# Altium footprint library aPassive.PcbLib: 212 footprints (part 10 of 14)
Each footprint in its own frame and in the unit in brackets; x right, y up, seen from the top. Pads: shape width x height; smd on the part's side, far side on the other; paste and mask are expansions set on the pad; w line width, h text height; cw(c..) or ccw(c..) is an arc to the next point about the centre after c.
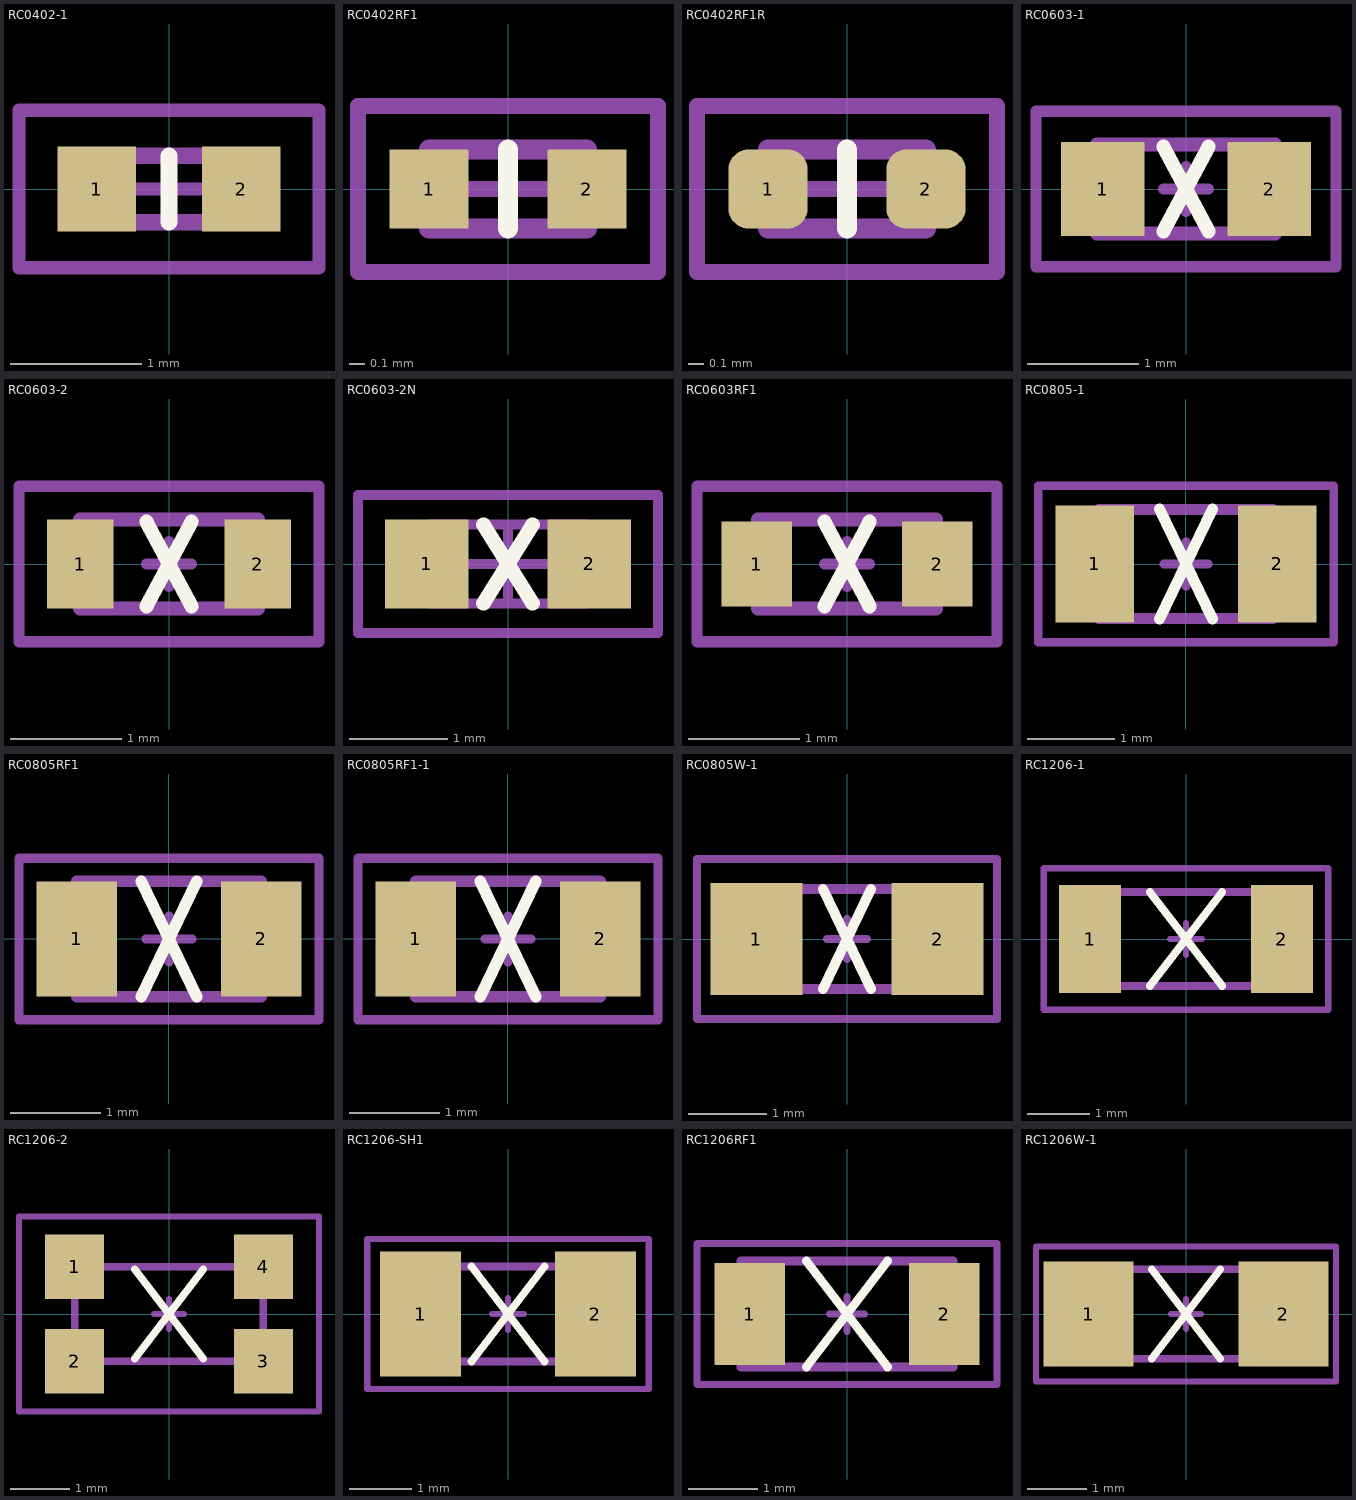
[diagram p9: the footprints below, top view; thin cyan lines are the x and y axes]

## RC0402-1 [mm] "Chip resistor 0402"
height 0.4
pads (2):
  rect 0.6x0.65 smd: 1(-0.55,0) 2(0.55,0)
Top Overlay:
  lines w0.127: 0,-0.254 0,0.254
Mechanical 13:
  lines w0.127: -0.508,-0.254 -0.508,0.254 0.508,0.254 0.508,-0.254 -0.508,-0.254
Mechanical 15:
  lines w0.1: -0.25,0 0.25,0 ; 0,-0.25 0,0.25
  lines w0.102: -1.143,-0.6 1.143,-0.6 1.143,0.6 -1.143,0.6 -1.143,-0.6
3D body: height 0.36, standoff 0.35, extent -0.35,-0.254 0.35,0.254
3D body: height 0.35, standoff 0, extent -0.508,-0.254 0.508,0.254

## RC0402RF1 [mil] "Chip resistor 0402 RF pad"
height 15.75
pads (2):
  rect 20x20 smd: 1(-20,0) 2(20,0)
Top Overlay:
  lines w5: 0,-10 0,10
Mechanical 13:
  lines w5: -20,-10 20,-10 20,10 -20,10 -20,-10
Mechanical 15:
  lines w3.94: -9.84,0 9.84,0 ; 0,-9.84 0,9.84
  lines w4: -38,-21 -38,21 38,21 38,-21 -38,-21
3D body: height 13.78, standoff 0, extent -20,-10 20,10
3D body: height 13.98, standoff 13.78, extent -13.78,-10 13.78,10

## RC0402RF1R [mil] "Chip resistor 0402 RF round pad"
height 15.75
pads (2):
  rrect50% 20x20 smd: 1(-20,0) 2(20,0)
Top Overlay:
  lines w5: 0,-10 0,10
Mechanical 13:
  lines w5: -20,-10 20,-10 20,10 -20,10 -20,-10
Mechanical 15:
  lines w3.94: -9.84,0 9.84,0 ; 0,-9.84 0,9.84
  lines w4: -38,-21 -38,21 38,21 38,-21 -38,-21
3D body: height 13.78, standoff 0, extent -20,-10 20,10
3D body: height 13.98, standoff 13.78, extent -13.78,-10 13.78,10

## RC0603-1 [mm] "Chip resistor 0603"
height 0.45
pads (2):
  rect 0.75x0.85 smd: 1(-0.75,0) 2(0.75,0)
Top Overlay:
  lines w0.127: -0.203,-0.381 0.203,0.381 ; -0.203,0.381 0.203,-0.381
Mechanical 13:
  lines w0.127: -0.8,-0.4 -0.8,0.4 0.8,0.4 0.8,-0.4 -0.8,-0.4
Mechanical 15:
  lines w0.1: -0.2,0 0.2,0 ; 0,-0.2 0,0.2 ; -1.35,-0.7 -1.35,0.7 1.35,0.7 1.35,-0.7 -1.35,-0.7
3D body: height 0.45, standoff 0, extent -0.8,-0.4 0.8,0.4
3D body: height 0.46, standoff 0.45, extent -0.6,-0.4 0.6,0.4

## RC0603-2 [mm] "Chip resistor 0603 low C"
height 0.45
pads (2):
  rect 0.6x0.8 smd: 1(-0.8,0) 2(0.8,0)
Top Overlay:
  lines w0.127: -0.203,-0.381 0.203,0.381 ; -0.203,0.381 0.203,-0.381
Mechanical 13:
  lines w0.127: -0.8,-0.4 0.8,-0.4 0.8,0.4 -0.8,0.4 -0.8,-0.4
Mechanical 15:
  lines w0.1: -0.2,0 0.2,0 ; 0,-0.2 0,0.2 ; -1.35,-0.7 1.35,-0.7 1.35,0.7 -1.35,0.7 -1.35,-0.7
3D body: height 0.46, standoff 0.45, extent -0.6,-0.4 0.6,0.4
3D body: height 0.45, standoff 0, extent -0.8,-0.4 0.8,0.4

## RC0603-2N [mm] "Chip Resistor, 2-Leads, Body 1,6x0,8mm, IPC Medium Density"
height 0.5
pads (2):
  rect 0.85x0.9 smd: 1(-0.825,0) 2(0.825,0)
Top Overlay:
  lines w0.15: -0.25,-0.4 0.25,0.4 ; -0.25,0.4 0.25,-0.4
Mechanical 13:
  lines w0.1: -0.8,-0.4 -0.8,0.4 0.8,0.4 0.8,-0.4 -0.8,-0.4
Mechanical 15:
  lines w0.1: -0.4,0 0.4,0 ; 0,-0.4 0,0.4 ; -1.525,-0.7 -1.525,0.7 1.525,0.7 1.525,-0.7 -1.525,-0.7
3D body: height 0.5, standoff 0, extent -0.8,-0.4 0.8,0.4

## RC0603RF1 [mil] "Chip resistor 0603 RF pad"
height 17.72
pads (2):
  rect 25x30 smd: 1(-32,0) 2(32,0)
Top Overlay:
  lines w5: -8,-15 8,15 ; -8,15 8,-15
Mechanical 13:
  lines w5: -31.5,-15.75 31.5,-15.75 31.5,15.75 -31.5,15.75 -31.5,-15.75
Mechanical 15:
  lines w3.94: -7.87,0 7.87,0 ; 0,-7.87 0,7.87 ; -53.15,-27.56 53.15,-27.56 53.15,27.56 -53.15,27.56 -53.15,-27.56
3D body: height 17.91, standoff 17.72, extent -23.62,-15.75 23.62,15.75
3D body: height 17.72, standoff 0, extent -31.5,-15.75 31.5,15.75

## RC0805-1 [mm] "Chip resistor 0805"
height 0.5
pads (2):
  rect 0.9x1.35 smd: 1(-1.05,0) 2(1.05,0)
Top Overlay:
  lines w0.127: -0.305,-0.635 0.305,0.635 ; -0.305,0.635 0.305,-0.635
Mechanical 13:
  lines w0.127: -1,-0.625 1,-0.625 1,0.625 -1,0.625 -1,-0.625
Mechanical 15:
  lines w0.1: -0.254,0 0.254,0 ; 0,-0.254 0,0.254 ; -1.7,-0.9 1.7,-0.9 1.7,0.9 -1.7,0.9 -1.7,-0.9
3D body: height 0.51, standoff 0.5, extent -0.6,-0.625 0.6,0.625
3D body: height 0.5, standoff 0, extent -1.016,-0.625 1.016,0.625

## RC0805RF1 [mil] "Chip resistor 0805; smaller pads for RF"
height 19.68
pads (2):
  rect 35x50 smd: 1(-40,0) 2(40,0)
Top Overlay:
  lines w5: -12,-25 12,25 ; -12,25 12,-25
Mechanical 13:
  lines w5: -40,-25 40,-25 40,25 -40,25 -40,-25
Mechanical 15:
  lines w3.94: -10,0 10,0 ; 0,-10 0,10 ; -65,-35 65,-35 65,35 -65,35 -65,-35
3D body: height 19.88, standoff 19.68, extent -23.62,-25 23.62,25
3D body: height 19.68, standoff 0, extent -40,-25 40,25

## RC0805RF1-1 [mil] "Chip resistor 0805; smaller pads for RF"
height 19.68
pads (2):
  rect 35x50 smd mask+1: 1(-40,0) 2(40,0)
Top Overlay:
  lines w5: -12,-25 12,25 ; -12,25 12,-25
Top Solder:
  pour cut-out: -58.5,26 -58.5,-26 -21.5,-26 -21.5,26 -19,26 -19,28.5 -61,28.5 -61,-28.5 -19,-28.5 -19,26
  pour cut-out: 58.5,26 58.5,-26 21.5,-26 21.5,26 19,26 19,28.5 61,28.5 61,-28.5 19,-28.5 19,26
Mechanical 13:
  lines w5: -40,-25 -40,25 40,25 40,-25 -40,-25
Mechanical 15:
  lines w3.94: -10,0 10,0 ; 0,-10 0,10 ; -65,-35 -65,35 65,35 65,-35 -65,-35
3D body: height 19.68, standoff 0, extent -40,-25 40,25
3D body: height 19.88, standoff 19.68, extent -23.62,-25 23.62,25

## RC0805W-1 [mil] "Chip resistor 0805 wave solder"
height 19.68
pads (2):
  rect 46x56 smd: 1(-45.28,0) 2(45.28,0)
Top Overlay:
  lines w5: -12,-25 12,25 ; -12,25 12,-25
Mechanical 13:
  lines w5: -40,-25 40,-25 40,25 -40,25 -40,-25
Mechanical 15:
  lines w3.94: -10,0 10,0 ; 0,-10 0,10 ; -75,-40 75,-40 75,40 -75,40 -75,-40
3D body: height 19.88, standoff 19.68, extent -23.62,-25 23.62,25
3D body: height 19.68, standoff 0, extent -40,-25 40,25

## RC1206-1 [mm] "Chip resistor 1206"
height 0.55
pads (2):
  rect 1x1.75 smd: 1(-1.55,0) 2(1.55,0)
Top Overlay:
  lines w0.127: -0.584,-0.762 0.584,0.762 ; -0.584,0.762 0.584,-0.762
Mechanical 13:
  lines w0.127: -1.55,-0.762 -1.55,0.762 1.55,0.762 1.55,-0.762 -1.55,-0.762
Mechanical 15:
  lines w0.1: -0.254,0 0.254,0 ; 0,-0.254 0,0.254 ; -2.3,-1.143 -2.3,1.143 2.3,1.143 2.3,-1.143 -2.3,-1.143
3D body: height 0.55, standoff 0, extent -1.55,-0.762 1.55,0.762
3D body: height 0.56, standoff 0.55, extent -1,-0.762 1,0.762

## RC1206-2 [mm] "Chip resistor 1206"
height 0.55
pads (4):
  rect 1x1.1 smd: 1(-1.6,0.8) 2(-1.6,-0.8) 3(1.6,-0.8) 4(1.6,0.8)
Top Overlay:
  lines w0.127: -0.584,-0.762 0.584,0.762 ; -0.584,0.762 0.584,-0.762
Mechanical 13:
  lines w0.127: -1.6,-0.8 -1.6,0.8 1.6,0.8 1.6,-0.8 -1.6,-0.8
Mechanical 15:
  lines w0.1: -0.254,0 0.254,0 ; 0,-0.254 0,0.254 ; -2.54,-1.651 -2.54,1.651 2.54,1.651 2.54,-1.651 -2.54,-1.651
3D body: height 0.55, standoff 0, extent -1.6,-0.8 1.6,0.8
3D body: height 0.56, standoff 0.55, extent -1,-0.8 1,0.8

## RC1206-SH1 [mm] "Chip resistor Shunt 1206"
height 0.55
pads (2):
  rect 1.3x2 smd: 1(-1.4,0) 2(1.4,0)
Top Overlay:
  lines w0.127: -0.584,-0.762 0.584,0.762 ; -0.584,0.762 0.584,-0.762
Mechanical 13:
  lines w0.127: -1.524,-0.762 -1.524,0.762 1.524,0.762 1.524,-0.762 -1.524,-0.762
Mechanical 15:
  lines w0.1: -0.254,0 0.254,0 ; 0,-0.254 0,0.254 ; -2.25,-1.2 -2.25,1.2 2.25,1.2 2.25,-1.2 -2.25,-1.2
3D body: height 0.5, standoff 0.15, extent -1.524,-0.762 1.524,0.762
3D body: height 0.15, standoff 0, extent 0.85,-0.762 1.524,0.762
3D body: height 0.15, standoff 0, extent -1.524,-0.762 -0.85,0.762

## RC1206RF1 [mil] "Chip resistor 1206; smaller pads for RF"
height 21.65
pads (2):
  rect 40x58 smd: 1(-55,0) 2(55,0)
Top Overlay:
  lines w5: -22.99,-30 22.99,30 ; -22.99,30 22.99,-30
Mechanical 13:
  lines w5: -60,-30 -60,30 60,30 60,-30 -60,-30
Mechanical 15:
  lines w3.94: -10,0 10,0 ; 0,-10 0,10 ; -85,-40 -85,40 85,40 85,-40 -85,-40
3D body: height 21.65, standoff 0, extent -60,-30 60,30
3D body: height 21.85, standoff 21.65, extent -39.37,-30 39.37,30

## RC1206W-1 [mil] "Chip resistor 1206 wave solder"
height 21.65
pads (2):
  rect 60x70 smd: 1(-64.96,0) 2(64.96,0)
Top Overlay:
  lines w5: -22.99,-30 22.99,30 ; -22.99,30 22.99,-30
Mechanical 13:
  lines w5: -60,-30 60,-30 60,30 -60,30 -60,-30
Mechanical 15:
  lines w3.94: -10,0 10,0 ; 0,-10 0,10 ; -100,-45 100,-45 100,45 -100,45 -100,-45
3D body: height 21.85, standoff 21.65, extent -39.37,-30 39.37,30
3D body: height 21.65, standoff 0, extent -60,-30 60,30